# Altium footprint library CKC21C104KDGLC7805 v1.PCBLIB: 1 footprints
Each footprint in its own frame and in the unit in brackets; x right, y up, seen from the top. Pads: shape width x height; smd on the part's side, far side on the other; paste and mask are expansions set on the pad; w line width, h text height; cw(c..) or ccw(c..) is an arc to the next point about the centre after c.
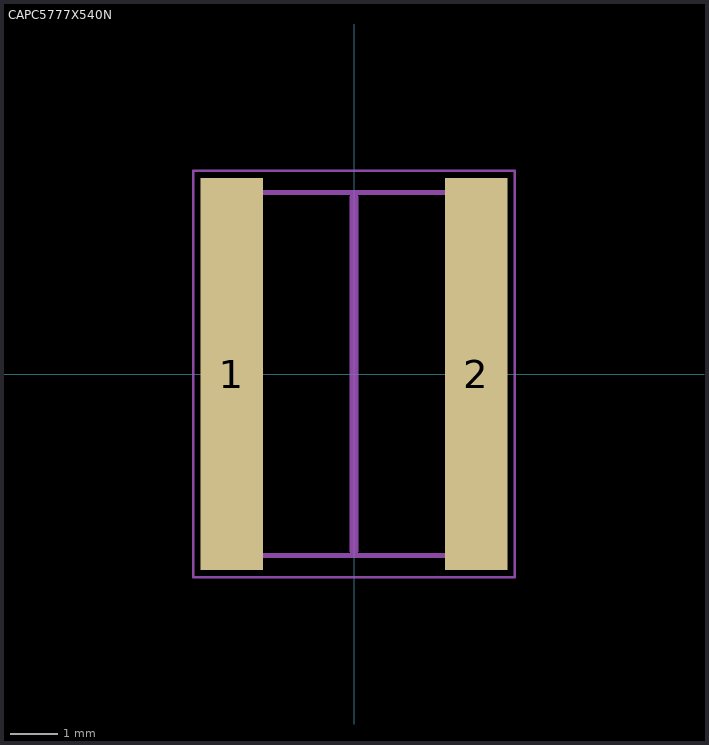
[diagram p0: the footprint, top view; thin cyan lines are the x and y axes]

## CAPC5777X540N [mm]
pads (2):
  rect 1.33x8.31 smd: 1(-2.59,0) 2(2.59,0)
tDocu:
  lines w0.05: -3.405,-4.31 3.405,-4.31 3.405,4.31 -3.405,4.31 -3.405,-4.31
  lines w0.1: -2.85,-3.85 2.85,-3.85 2.85,3.85 -2.85,3.85 -2.85,-3.85
tPlace:
  lines w0.2: 0,-3.75 0,3.75